# EAGLE library part GYROBREAKOUTBOARD-LPY530AL (library GyroBreakoutBoard-LPY530AL)
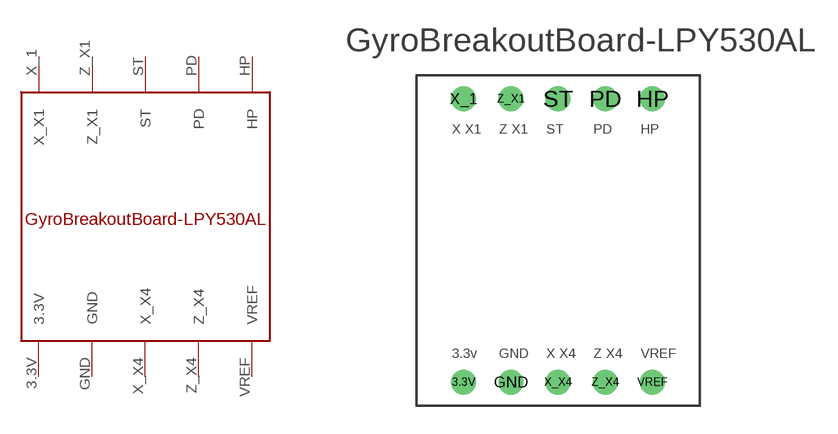
[diagram p0: symbol with the pads of GYROBREAKOUTBOARD-LPY530AL; footprint GYROBREAKOUTBOARD-LPY530AL]

Designator prefix -

## GYROBREAKOUTBOARD-LPY530AL  [GYROBREAKOUTBOARD-LPY530AL]
3.3V  3.3V
GND  GND
HP  HP
PD  PD
ST  ST
VREF  VREF
X_1  X_X1
X_X4  X_X4
Z_X1  Z_X1
Z_X4  Z_X4

## Footprint GYROBREAKOUTBOARD-LPY530AL (pad centres in mm)
drill 0.838 round: 3.3V -5.08,-7.62; GND -2.54,-7.62; HP 5.08,7.62; PD 2.54,7.62; ST 0,7.62; VREF 5.08,-7.62; X_1 -5.08,7.62; X_X4 0,-7.62; Z_X1 -2.54,7.62; Z_X4 2.54,-7.62